# EAGLE library part WS2813 (library kala_lib)
WS2813 RGB LED
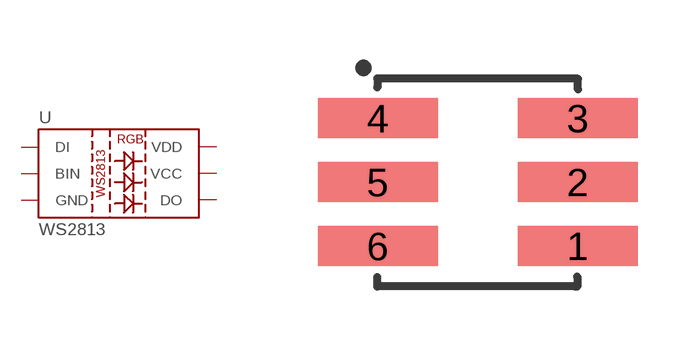
[diagram p0: symbol with the pads of WS2813; footprint WS2813]

Designator prefix U

## WS2813  [WS2813]
1  VCC
2  VDD
3  DO
4  DI
5  GND
6  BIN

## Footprint WS2813 (pad centres in mm)
smd 3 x 1: 1 2.5,-1.6; 2 2.5,-0.001; 3 2.5,1.6; 4 -2.5,1.6; 5 -2.5,-0.001; 6 -2.5,-1.6